# EAGLE library part 6AK10 (library tubes_pmillett)
Compactron triple triode (6AC10, 6U10, etc.)
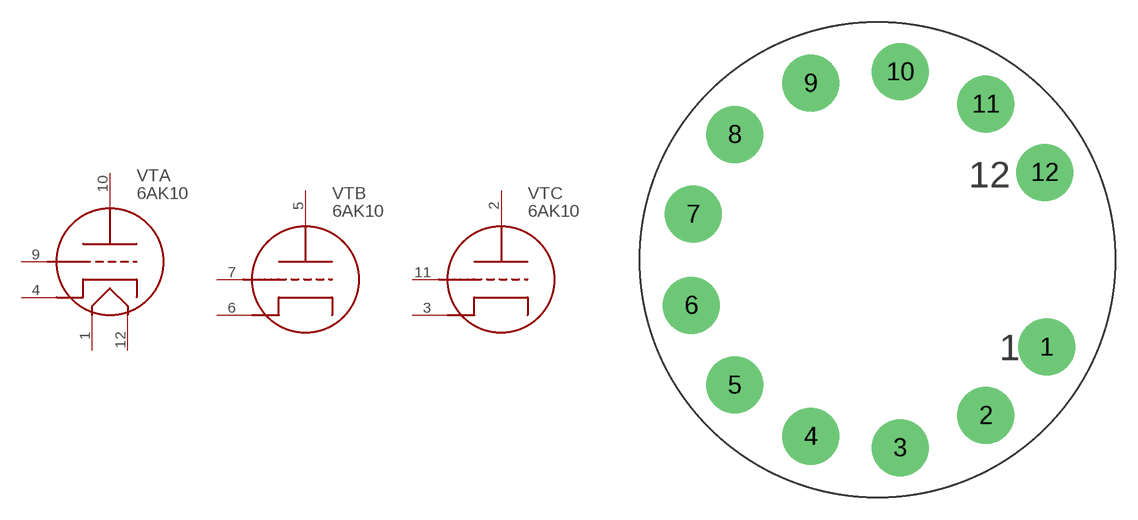
[diagram p60: symbol with the pads of COMPACTRON_BOT; footprint COMPACTRON_BOT]

Designator prefix VT; gates A=TRIODE_12-1 B=TRIODE_12B-1 C=TRIODE_12B-1

## 6AK10  [COMPACTRON_BOT]
1  A:H1  pas
2  C:A  pas
3  C:K  pas
4  A:K  pas
5  B:A  pas
6  B:K  pas
7  B:G  pas
9  A:G  pas
10  A:A  pas
11  C:G  pas
12  A:H2  pas

## Footprint COMPACTRON_BOT (pad centres in mm)
12-PIN COMPACTRON MTD BOTTOM SIDE
drill 2.184 pad 3.81: 1 11.303,-5.842; 2 7.239,-10.414; 3 1.524,-12.573; 4 -4.445,-11.811; 5 -9.525,-8.382; 6 -12.446,-3.048; 7 -12.319,3.048; 8 -9.525,8.382; 9 -4.445,11.811; 10 1.524,12.573; 11 7.239,10.414; 12 11.176,5.842